# EAGLE library part TE-5555139 (library SAE_2019)
TE-555139 Connector
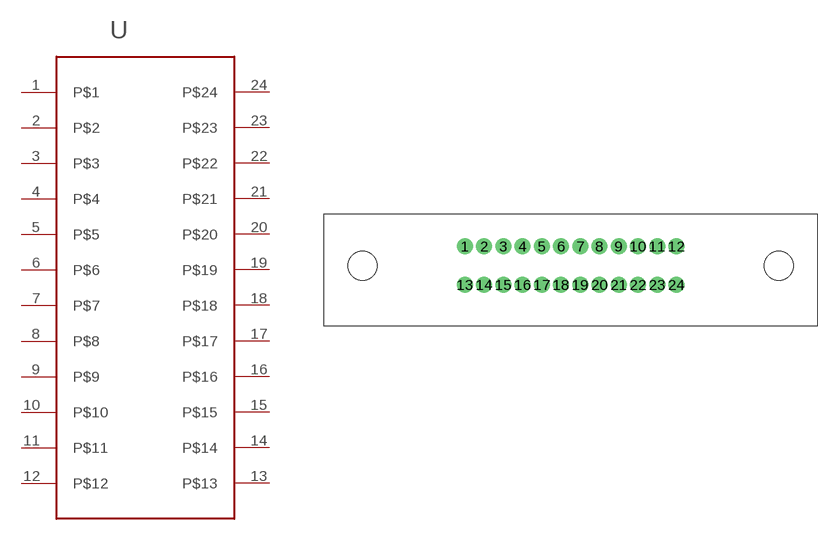
[diagram p11: symbol with the pads of TE-5555139; footprint TE-5555139]

Designator prefix -

## TE-5555139  [TE-5555139]
1  P$1
2  P$2
3  P$3
4  P$4
5  P$5
6  P$6
7  P$7
8  P$8
9  P$9
10  P$10
11  P$11
12  P$12
13  P$13
14  P$14
15  P$15
16  P$16
17  P$17
18  P$18
19  P$19
20  P$20
21  P$21
22  P$22
23  P$23
24  P$24

## Footprint TE-5555139 (pad centres in mm)
drill 1.2: 1 -11.88,2.16; 2 -9.72,2.16; 3 -7.56,2.16; 4 -5.4,2.16; 5 -3.24,2.16; 6 -1.08,2.16; 7 1.08,2.16; 8 3.24,2.16; 9 5.4,2.16; 10 7.56,2.16; 11 9.72,2.16; 12 11.88,2.16; 13 -11.88,-2.16; 14 -9.72,-2.16; 15 -7.56,-2.16; 16 -5.4,-2.16; 17 -3.24,-2.16; 18 -1.08,-2.16; 19 1.08,-2.16; 20 3.24,-2.16; 21 5.4,-2.16; 22 7.56,-2.16; 23 9.72,-2.16; 24 11.88,-2.16
hole 3.25 at -23.4,0
hole 3.25 at 23.4,0